# EAGLE library part A4983SETTR-T (library Allegro_By_element14_Batch_1)
DMOS Microstepping Driver
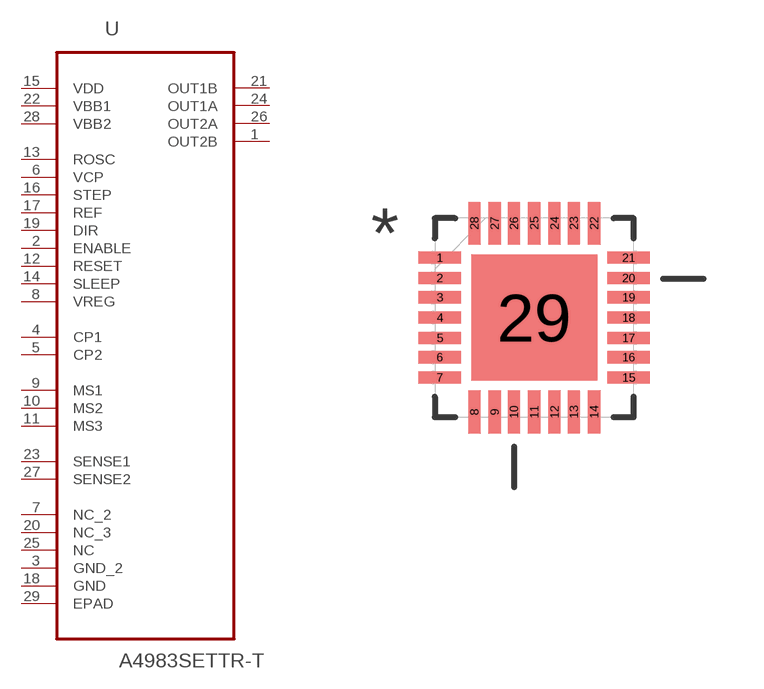
[diagram p8: symbol with the pads of QFN50P500X500X100-29N; footprint QFN50P500X500X100-29N]

Designator prefix U

## A4983SETTR-T (MPN: A4983SETTR-T; OC_FARNELL: 1688956; OC_NEWARK: 39M6763; PACKAGE: QFN-28; SUPPLIER: ALLEGRO MICROSYSTEMS)  [QFN50P500X500X100-29N]
1  OUT2B  out
2  ENABLE  in
3  GND_2  pas
4  CP1  in
5  CP2  in
6  VCP  pas
7  NC_2  nc
8  VREG  in
9  MS1  in
10  MS2  in
11  MS3  in
12  RESET  in
13  ROSC  in
14  SLEEP  in
15  VDD  pwr
16  STEP  in
17  REF  in
18  GND  pas
19  DIR  in
20  NC_3  nc
21  OUT1B  out
22  VBB1  pwr
23  SENSE1  in
24  OUT1A  out
25  NC  nc
26  OUT2A  out
27  SENSE2  in
28  VBB2  pwr
29  EPAD  pas

## Footprint QFN50P500X500X100-29N (pad centres in mm)
smd 1.067 x 0.305: 1 -2.362,1.499; 2 -2.362,0.991; 3 -2.362,0.508; 4 -2.362,0; 5 -2.362,-0.508; 6 -2.362,-0.991; 7 -2.362,-1.499; 15 2.362,-1.499; 16 2.362,-0.991; 17 2.362,-0.508; 18 2.362,0; 19 2.362,0.508; 20 2.362,0.991; 21 2.362,1.499
smd 0.305 x 1.067: 8 -1.499,-2.362; 9 -0.991,-2.362; 10 -0.508,-2.362; 11 0,-2.362; 12 0.508,-2.362; 13 0.991,-2.362; 14 1.499,-2.362; 22 1.499,2.362; 23 0.991,2.362; 24 0.508,2.362; 25 0,2.362; 26 -0.508,2.362; 27 -0.991,2.362; 28 -1.499,2.362
smd 3.15 x 3.15: 29 0,0